# Altium footprint library SM_PTCFUSE_1210.PcbLib: 1 footprints
Each footprint in its own frame and in the unit in brackets; x right, y up, seen from the top. Pads: shape width x height; smd on the part's side, far side on the other; paste and mask are expansions set on the pad; w line width, h text height; cw(c..) or ccw(c..) is an arc to the next point about the centre after c.
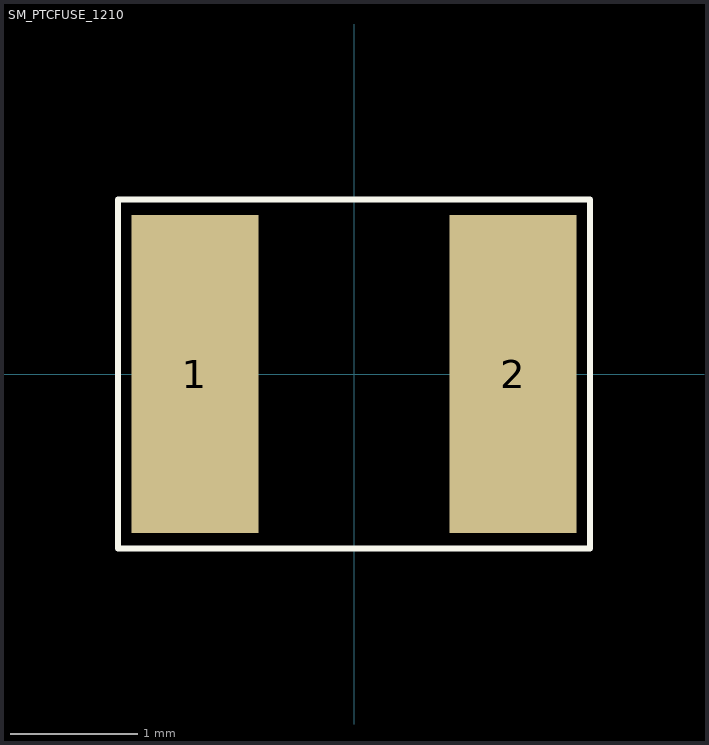
[diagram p0: the footprint, top view; thin cyan lines are the x and y axes]

## SM_PTCFUSE_1210 [mm]
pads (2):
  rect 1x2.5 smd: 1(-1.25,0) 2(1.25,0)
Top Overlay:
  lines w0.05: -1.854,-1.372 1.854,-1.372 1.854,1.372 -1.854,1.372 -1.854,-1.372
3D body "mf-usmf150.stp": height 0.63, standoff 0, extent -1.607,-1.287 1.608,1.287